# Altium footprint library Relay-CPC1964B.PcbLib: 1 footprints
Each footprint in its own frame and in the unit in brackets; x right, y up, seen from the top. Pads: shape width x height; smd on the part's side, far side on the other; paste and mask are expansions set on the pad; w line width, h text height; cw(c..) or ccw(c..) is an arc to the next point about the centre after c.
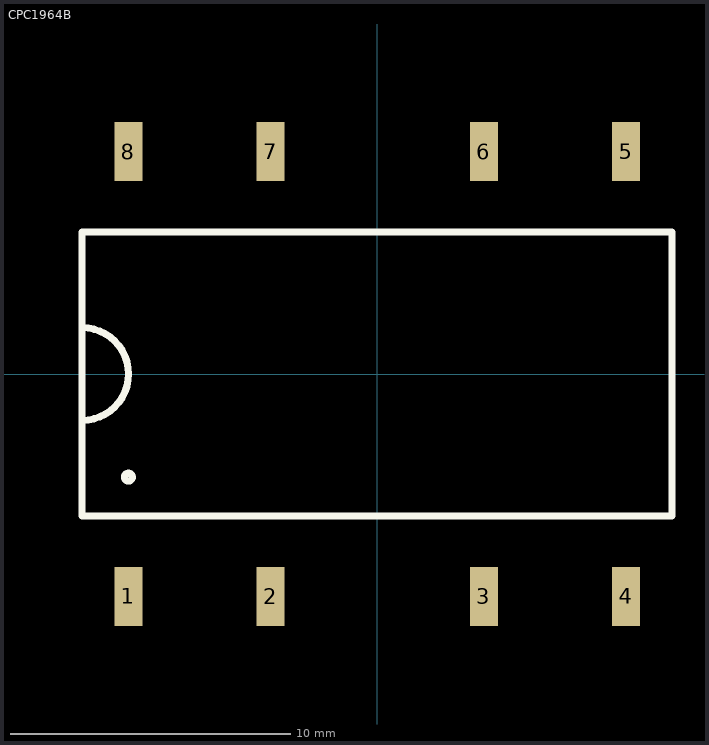
[diagram p0: the footprint, top view; thin cyan lines are the x and y axes]

## CPC1964B [mm] "SSR SPST, 1.5A 0~800V"
pads (8):
  rect 1x2.1 smd: 1(-8.891,-7.95) 2(-3.811,-7.95) 3(3.811,-7.95) 4(8.891,-7.95) 5(8.891,7.95) 6(3.811,7.95) 7(-3.811,7.95) 8(-8.891,7.95)
Top Overlay:
  circle w0.254: c-8.89,-3.683 r0.14
  lines w0.254: -10.541,-1.656 ccw(c-10.541,0) -10.541,1.656 ; -10.541,-5.08 -10.541,5.08 10.541,5.08 10.541,-5.08 -10.541,-5.08
3D body: height 2.3, standoff -0.08, extent -10.541,-8.001 10.541,7.829